# EAGLE library part MC68HC*08JB8A (library Motorola_HC08)
Motorola HC08 MC68HC908JB8 microcontrollers jean-francois@frebourg.com
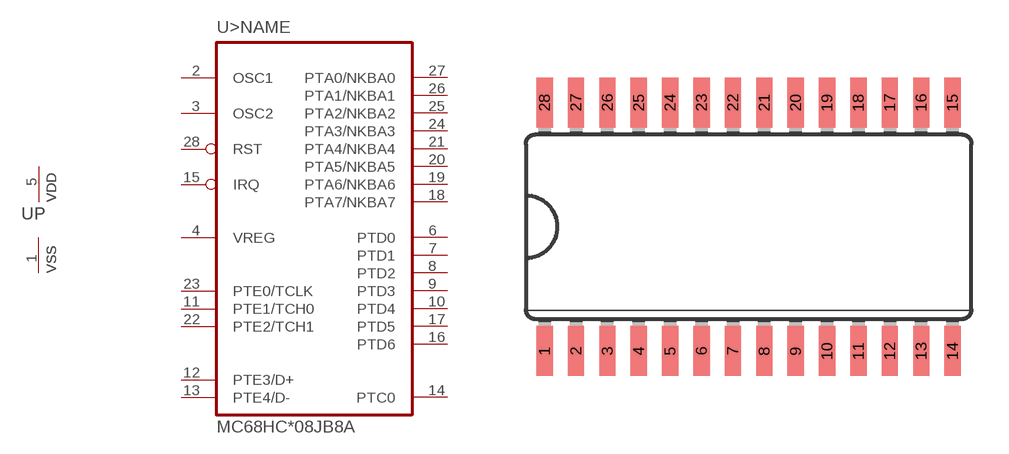
[diagram p1: symbol with the pads of SO28W; footprint SO28W]

Designator prefix U; gates >NAME=HC08JB_28 P=PWRN

## MC68HC08JB8ADW, MC68HC908JB8ADW  [SO28W]
1  P:VSS  pwr
2  >NAME:OSC1  in
3  >NAME:OSC2  out
4  >NAME:VREG  pwr
5  P:VDD  pwr
6  >NAME:PTD0
7  >NAME:PTD1
8  >NAME:PTD2
9  >NAME:PTD3
10  >NAME:PTD4
11  >NAME:PTE1/TCH0
12  >NAME:PTE3/D+
13  >NAME:PTE4/D-
14  >NAME:PTC0
15  >NAME:IRQ  in
16  >NAME:PTD6
17  >NAME:PTD5
18  >NAME:PTA7/NKBA7
19  >NAME:PTA6/NKBA6
20  >NAME:PTA5/NKBA5
21  >NAME:PTA4/NKBA4
22  >NAME:PTE2/TCH1
23  >NAME:PTE0/TCLK
24  >NAME:PTA3/NKBA3
25  >NAME:PTA2/NKBA2
26  >NAME:PTA1/NKBA1
27  >NAME:PTA0/NKBA0
28  >NAME:RST

## Footprint SO28W (pad centres in mm)
Wide Small Outline package 300 mil
smd 0.66 x 2.032: 1 -8.255,-5.029; 2 -6.985,-5.029; 3 -5.715,-5.029; 4 -4.445,-5.029; 5 -3.175,-5.029; 6 -1.905,-5.029; 7 -0.635,-5.029; 8 0.635,-5.029; 9 1.905,-5.029; 10 3.175,-5.029; 11 4.445,-5.029; 12 5.715,-5.029; 13 6.985,-5.029; 14 8.255,-5.029; 15 8.255,5.029; 16 6.985,5.029; 17 5.715,5.029; 18 4.445,5.029; 19 3.175,5.029; 20 1.905,5.029; 21 0.635,5.029; 22 -0.635,5.029; 23 -1.905,5.029; 24 -3.175,5.029; 25 -4.445,5.029; 26 -5.715,5.029; 27 -6.985,5.029; 28 -8.255,5.029